# Altium schematic symbol library Transistor.SchLib: 36 symbols
Pins are listed as number, name and electrical type; pins without a type are passive.

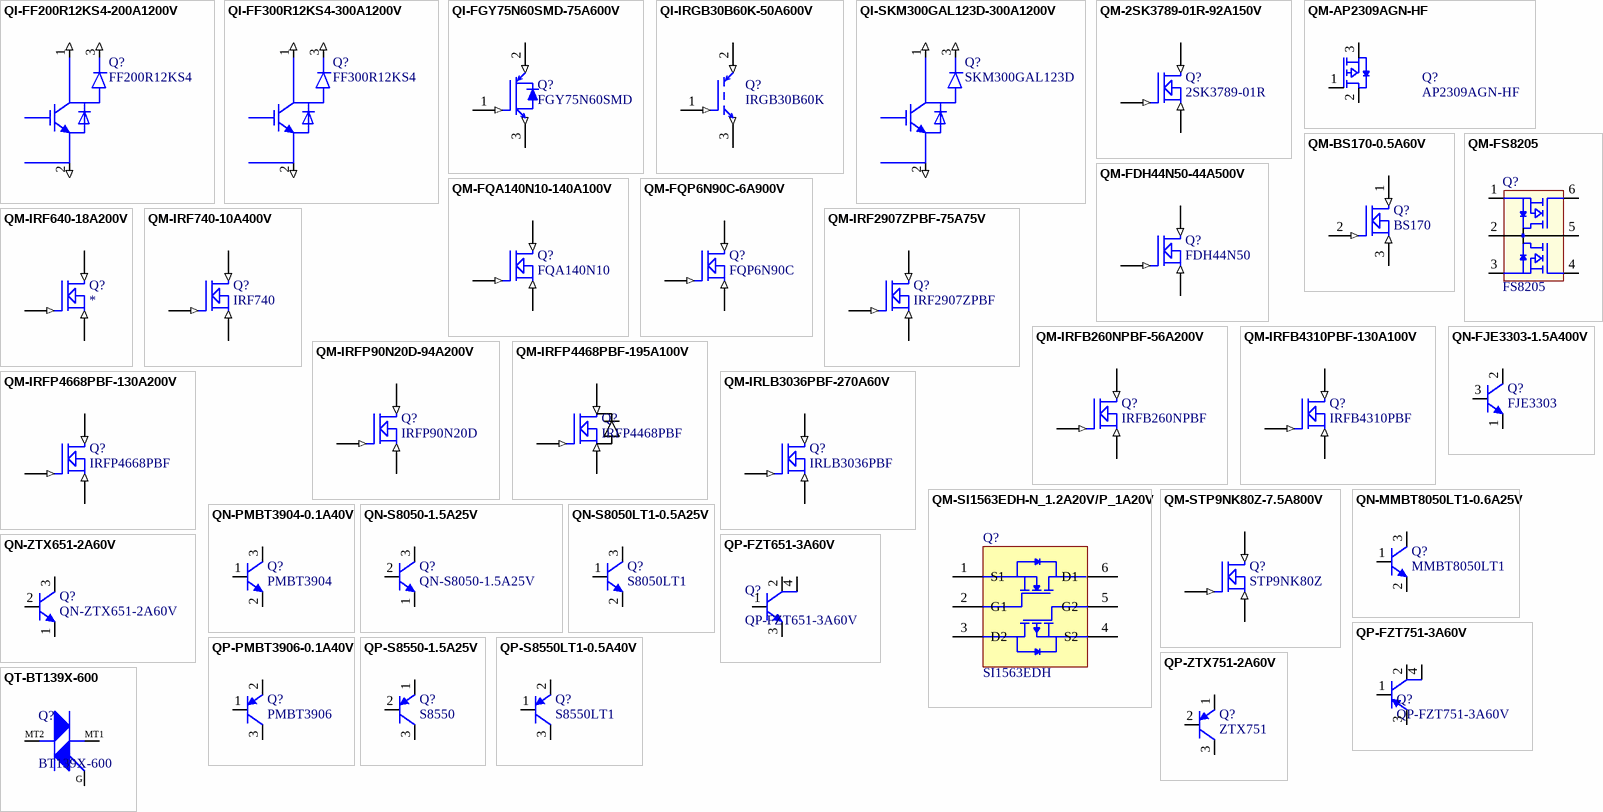
[diagram p0: symbols QI-FF200R12KS4-200A1200V to QT-BT139X-600]

## QI-FF200R12KS4-200A1200V
designator Q?, comment FF200R12KS4
IGBT模块; 规格型号: FF200R12KS4-200A1200V; 货品编码: 218018; 生产商: 英飞凌; 备注: *; 供应商: *
footprint Q-IGBT-106.4X61.4X30.5 (IGBT-FF200R12KS4)
pins: 1 (in), 2 (in), 3 (in)

## QI-FF300R12KS4-300A1200V
designator Q?, comment FF300R12KS4
IGBT模块; 规格型号: FF300R12KS4-300A1200V; 货品编码: 218019; 生产商: 英飞凌; 备注: *; 供应商: *
footprint Q-IGBT-106.4X61.4X30.5 (IGBT-FF200R12KS4)
pins: 1 (in), 2 (in), 3 (in)

## QI-FGY75N60SMD-75A600V
designator Q?, comment FGY75N60SMD
插件IGBT管; 规格型号: FGY75N60SMD-75A600V; 备注: FBO-2205CT 20121213研发阶段; 货品编码: 218020; 供应商: *
footprint Q-TO-247
pins: 1 (in), 2 (in), 3 (out)

## QI-IRGB30B60K-50A600V
designator Q?, comment IRGB30B60K
插件IGBT管; 规格型号: IRGB30B60K-50A600V; 货品编码: 332004; 备注: *; 供应商: *
footprint Q-TO-220
pins: 1 (in), 2 (in), 3 (out)

## QI-SKM300GAL123D-300A1200V
designator Q?, comment SKM300GAL123D
IGBT模块; 规格型号: SKM300GAL123D-300A1200V; 货品编码: 218014; 生产商: 西门子; 备注: *; 供应商: *
footprint Q-IGBT-106.4X61.4X30.5 (IGBT-FF200R12KS4)
pins: 1 (in), 2 (in), 3 (in)

## QM-2SK3789-01R-92A150V
designator Q?, comment 2SK3789-01R
插件MOSFET管; 规格型号: 2SK3789-01R-92A150V; 货品编码: 332014; 供应商: *
footprint Q-TO-247/S1
footprint Q-TO-247/B
pins: 1 (in), 2 (in), 3 (in)

## QM-AP2309AGN-HF
designator Q?, comment AP2309AGN-HF
贴片MOSFET管; 货品编码: 331010; 生产商: Advanced Power; 规格型号: AP2309AGN-HF; 备注: *; 供应商: *
footprint Q-TO-247
footprint Q-SOT-23
pins: 1, 2, 3

## QM-BS170-0.5A60V
designator Q?, comment BS170
插件MOSFET管; 规格型号: BS170-0.5A60V; 货品编码: 332023; 备注: *; 供应商: *
footprint Q-TO-92
pins: 1 (in), 2 (in), 3 (in)

## QM-FDH44N50-44A500V
designator Q?, comment FDH44N50
插件MOSFET管; 规格型号: FDH44N50-44A500V; 货品编码: 332026; 备注: *; 供应商: *
footprint Q-TO-247
footprint Q-TO-247/B
pins: 1 (in), 2 (in), 3 (in)

## QM-FQA140N10-140A100V
designator Q?, comment FQA140N10
插件MOSFET管; 规格型号: FQA140N10-140A100V; 备注: 实物尺寸为TO247尺寸,封装为TO-3P; 货品编码: 332016; 供应商: *
footprint Q-TO-247
footprint Q-TO-247/B
pins: 1 (in), 2 (in), 3 (in)

## QM-FQP6N90C-6A900V
designator Q?, comment FQP6N90C
插件MOSFET管; 规格型号: FQP6N90C-6A900V; 货品编码: 332020; 备注: *; 供应商: *
footprint Q-TO-220
pins: 1 (in), 2 (in), 3 (in)

## QM-FS8205
designator Q?, comment FS8205
贴片MOSFET管; 品牌: 富晶电子; 规格型号: FS8205_20V4A，双N-MOS; 货品编码: 无样品无编码; 备注: *; 供应商: 富晶电子
footprint Q-SOT-23-6
pins: 1 S1, 2 D12, 3 S2, 4 G2, 5 D12, 6 G1

## QM-IRF640-18A200V
designator Q?
插件MOSFET管; 规格型号: IRF640-18A200V; 货品编码: 332012; 供应商: *; 备注: *
footprint Q-TO-220
pins: 1 (in), 2 (in), 3 (in)

## QM-IRF740-10A400V
designator Q?, comment IRF740
插件MOSFET管; 规格型号: IRF740-10A400V; 货品编码: 332017; 备注: *; 供应商: *
footprint Q-TO-220
pins: 1 (in), 2 (in), 3 (in)

## QM-IRF2907ZPBF-75A75V
designator Q?, comment IRF2907ZPBF
插件MOSFET管; 规格型号: IRF2907ZPBF-75A75V; 货品编码: 342014; 备注: *; 供应商: *
footprint Q-TO-220
pins: 1 (in), 2 (in), 3 (in)

## QM-IRFB260NPBF-56A200V
designator Q?, comment IRFB260NPBF
插件MOSFET管; 规格型号: IRFB260NPBF-56A200V; 货品编码: 332003; 备注: *; 供应商: *
footprint Q-TO-220
pins: 1 (in), 2 (in), 3 (in)

## QM-IRFB4310PBF-130A100V
designator Q?, comment IRFB4310PBF
插件MOSFET管; 规格型号: IRFB4310PBF-130A100V; 货品编码: 332015; 备注: *; 供应商: *
footprint Q-TO-220
pins: 1 (in), 2 (in), 3 (in)

## QM-IRFP90N20D-94A200V
designator Q?, comment IRFP90N20D
插件MOSFET管; 规格型号: IRFP90N20D-94A200V; 货品编码: 332019; 备注: *; 供应商: *
footprint Q-TO-247
footprint Q-TO-247/B
pins: 1 (in), 2 (in), 3 (in)

## QM-IRFP4468PBF-195A100V
designator Q?, comment IRFP4468PBF
插件MOSFET管; 规格型号: IRFP4468PBF-195A100V; 货品编码: 无样品无编码; 供应商: *
footprint Q-TO-247
footprint Q-TO-247/B
pins: 1 (in), 2 (in), 3 (in)

## QM-IRFP4668PBF-130A200V
designator Q?, comment IRFP4668PBF
插件MOSFET管; 规格型号: IRFP4668PBF-130A200V; 货品编码: 332018; 备注: *; 供应商: *
footprint Q-TO-247
footprint Q-TO-247/B
pins: 1 (in), 2 (in), 3 (in)

## QM-IRLB3036PBF-270A60V
designator Q?, comment IRLB3036PBF
插件MOSFET管; 规格型号: IRLB3036PBF-270A60V; 货品编码: 342013; 备注: *; 供应商: *
footprint Q-TO-220
pins: 1 (in), 2 (in), 3 (in)

## QM-SI1563EDH-N_1.2A20V/P_1A20V
designator Q?, comment SI1563EDH
贴片MOSFET管-N+P; 规格型号: SI1563EDH-N_1.2A20V/P_1A20V; 货品编码: 无样品无编码; 生产商: *; 供应商: *; 备注: *
footprint Q-SC-70 (Footprint not found)
pins: 1 S1, 2 G1, 3 D2, 4 S2, 5 G2, 6 D1

## QM-STP9NK80Z-7.5A800V
designator Q?, comment STP9NK80Z
插件MOSFET管; 货品编码: 332024; 生产商: 意法半导体; 规格型号: STP9NK80Z; 备注: *; 供应商: *
footprint Q-TO-220
pins: 1 (in), 2 (in), 3 (in)

## QN-FJE3303-1.5A400V
designator Q?, comment FJE3303
插件三级管-NPN; 规格型号: FJE3303-1.5A400V; 货品编码: 无样品无编码; 供应商: *; 备注: *
footprint Q-TO-126
pins: 1, 2, 3

## QN-MMBT8050LT1-0.6A25V
designator Q?, comment MMBT8050LT1
贴片三级管-NPN; 规格型号: MMBT8050LT1-0.6A25V; 货品编码: 331004; 供应商: *; 备注: *
footprint Q-SOT-23
pins: 1, 2, 3

## QN-PMBT3904-0.1A40V
designator Q?, comment PMBT3904
贴片三级管-NPN; 规格型号: PMBT3904-0.1A40V; 货品编码: 331005; 供应商: *; 备注: *
footprint Q-SOT-23
pins: 1, 2, 3

## QN-S8050-1.5A25V
designator Q?
插件三极管-NPN; 货品编码: 332002; 规格型号: S8050-1.5A25V; 备注: *; 供应商: *
footprint Q-TO-92
pins: 1, 2, 3

## QN-S8050LT1-0.5A25V
designator Q?, comment S8050LT1
贴片三级管-NPN; 规格型号: S8050LT1-0.5A25V; 货品编码: 331002; 供应商: *; 备注: *
footprint Q-SOT-23
pins: 1, 2, 3

## QN-ZTX651-2A60V
designator Q?
插件三级管-NPN; 货品编码: 332008; 供应商: *; 规格型号: ZTX651-2A60V; 备注: *
footprint Q-TO-92
pins: 1, 2, 3

## QP-FZT651-3A60V
designator Q?
贴片三级管-NPN; 货品编码: 331008; 规格型号: FZT651-3A60V; 备注: *; 供应商: *; 生产商: *
footprint Q-SOT-223
pins: 1, 2, 3, 4

## QP-FZT751-3A60V
designator Q?
贴片三级管-PNP; 货品编码: 331006; 规格型号: FZT751-3A60V; 供应商: *; 备注: *
footprint Q-SOT-223
pins: 1, 2, 3, 4

## QP-PMBT3906-0.1A40V
designator Q?, comment PMBT3906
贴片三极管-PNP; 规格型号: PMBT3906-0.1A40V; 货品编码: 331007; 备注: *; 供应商: *
footprint Q-SOT-23
footprint Q-SOT-23
pins: 1, 2, 3

## QP-S8550-1.5A25V
designator Q?, comment S8550
插件三极管-PNP; 规格型号: S8550-1.5A25V; 货品编码: 332009; 备注: *; 供应商: *
footprint Q-TO-92
pins: 1, 2, 3

## QP-S8550LT1-0.5A40V
designator Q?, comment S8550LT1
贴片三极管-PNP; 规格型号: S8550LT1-0.5A40V; 货品编码: 331001; 备注: *; 供应商: *
footprint Q-SOT-23
pins: 1, 2, 3

## QP-ZTX751-2A60V
designator Q?, comment ZTX751
插件三极管-PNP; 规格型号: ZTX751-2A60V; 货品编码: 332007; 供应商: *; 备注: *
footprint Q-TO-92
pins: 1, 2, 3

## QT-BT139X-600
designator Q?, comment BT139X-600
插件可控硅; 货品编码: 无样品无编码; 生产商: *; 规格型号: BT139X-600; 供应商: *; 备注: *
footprint Q-TO-220
pins: 1 MT1, 2 MT2, 3 G